# EAGLE library part JST-15 (library con-jst-gh)
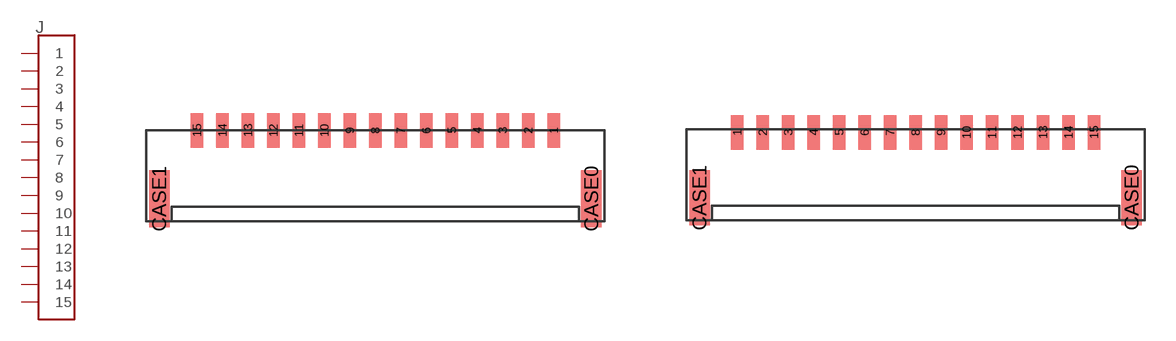
[diagram p1: symbol with the pads of BM15B-GHS; footprints BM15B-GHS, SM15B-GHS]

Designator prefix J

## JST-15TOP  [BM15B-GHS]
1  15
2  14
3  13
4  12
5  11
6  10
7  9
8  8
9  7
10  6
11  5
12  4
13  3
14  2
15  1

## JST-15SIDE  [SM15B-GHS]
1  1
2  2
3  3
4  4
5  5
6  6
7  7
8  8
9  9
10  10
11  11
12  12
13  13
14  14
15  15

## Footprint BM15B-GHS (pad centres in mm)
smd 0.6 x 1.7: 1 8.75,2.5; 2 7.5,2.5; 3 6.25,2.5; 4 5,2.5; 5 3.75,2.5; 6 2.5,2.5; 7 1.25,2.5; 8 0,2.5; 9 -1.25,2.5; 10 -2.5,2.5; 11 -3.75,2.5; 12 -5,2.5; 13 -6.25,2.5; 14 -7.5,2.5; 15 -8.75,2.5
smd 1 x 2.8: CASE0 10.6,-0.85; CASE1 -10.6,-0.85

## Footprint SM15B-GHS (pad centres in mm)
smd 0.6 x 1.7: 1 -8.75,2.05; 2 -7.5,2.05; 3 -6.25,2.05; 4 -5,2.05; 5 -3.75,2.05; 6 -2.5,2.05; 7 -1.25,2.05; 8 0,2.05; 9 1.25,2.05; 10 2.5,2.05; 11 3.75,2.05; 12 5,2.05; 13 6.25,2.05; 14 7.5,2.05; 15 8.75,2.05
smd 1 x 2.7: CASE0 10.6,-1.15; CASE1 -10.6,-1.15